# Altium schematic symbol library LD2981ABU33TR.SchLib: 1 symbol
Pins are listed as number, name and electrical type; pins without a type are passive.

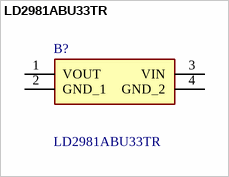
[diagram p0: symbol LD2981ABU33TR]

## LD2981ABU33TR
designator B?
Ultra low-drop voltage regulators with inhibit; Manufacturer_Name: STMicroelectronics; Geometry.Height: 1.6mm; Mouser Part Number: 511-LD2981ABU33; Mouser Price/Stock: https://www.mouser.co.uk/ProductDetail/STMicroelectronics/LD2981ABU33TR?qs=1OhPZrgumbmBIvYeukN1Rg%3D%3D; Manufacturer_Part_Number: LD2981ABU33TR; Datasheet Link: https://www.st.com/resource/en/datasheet/ld2981.pdf
footprint LD2981ABU33TR
pins: 1 VOUT, 2 GND_1, 3 VIN, 4 GND_2